# EAGLE library part NTR_CPU_B (library dslparts)
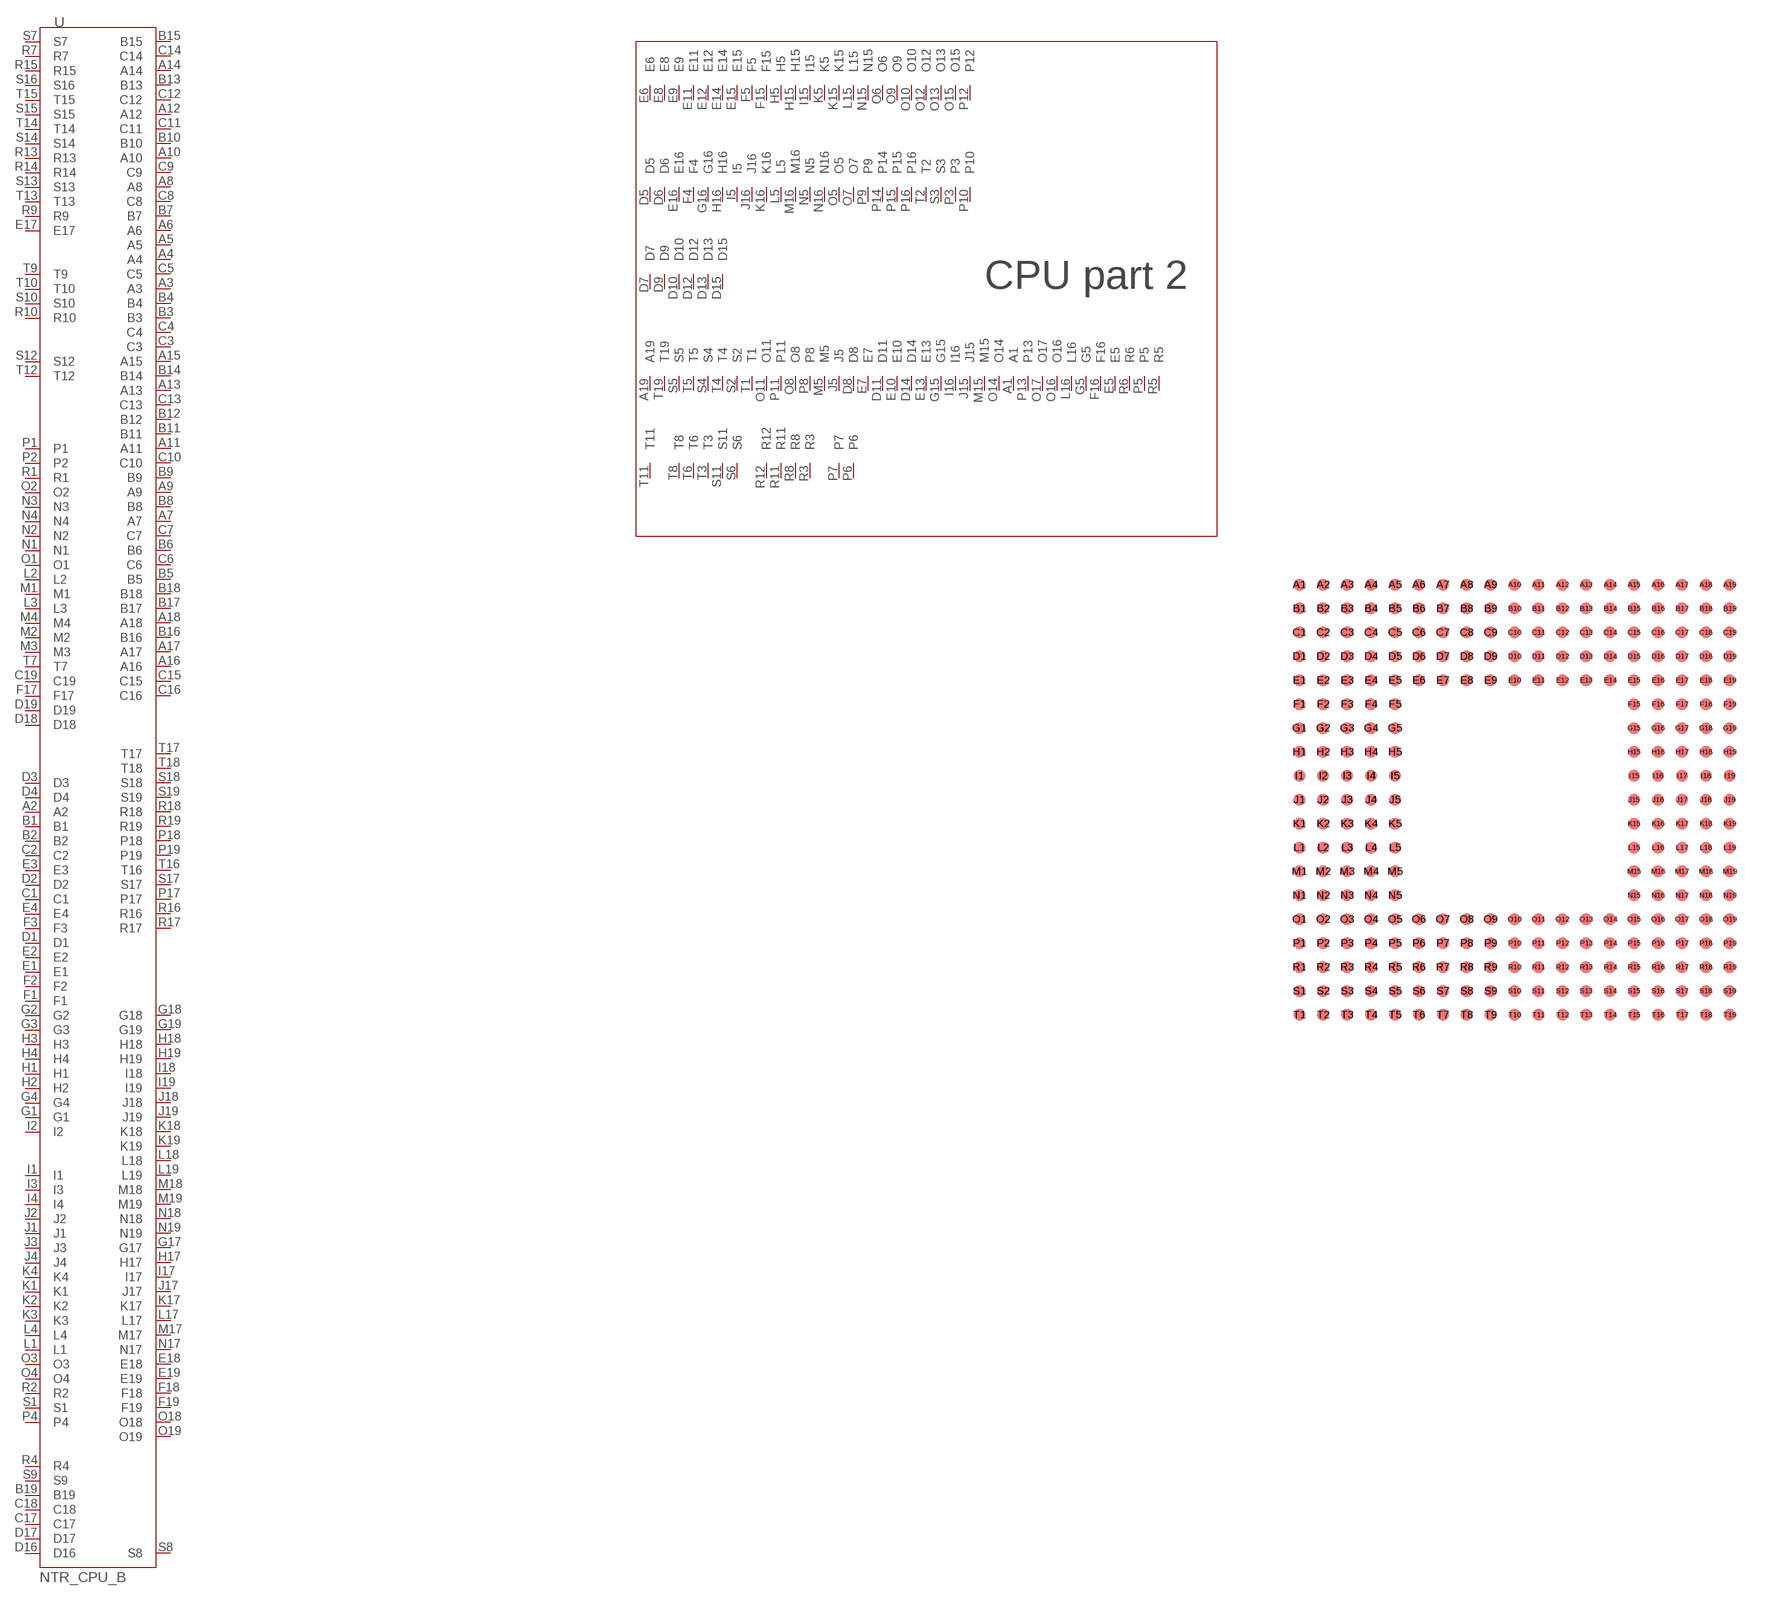
[diagram p2: symbol with the pads of CPU; footprint CPU]

Designator prefix -

## NTR_CPU_B  [CPU]
A1  A1
A2  A2
A3  A3
A4  A4
A5  A5
A6  A6
A7  A7
A8  A8
A9  A9
A10  A10
A11  A11
A12  A12
A13  A13
A14  A14
A15  A15
A16  A16
A17  A17
A18  A18
A19  A19
B1  B1
B2  B2
B3  B3
B4  B4
B5  B5
B6  B6
B7  B7
B8  B8
B9  B9
B10  B10
B11  B11
B12  B12
B13  B13
B14  B14
B15  B15
B16  B16
B17  B17
B18  B18
B19  B19
C1  C1
C2  C2
C3  C3
C4  C4
C5  C5
C6  C6
C7  C7
C8  C8
C9  C9
C10  C10
C11  C11
C12  C12
C13  C13
C14  C14
C15  C15
C16  C16
C17  C17
C18  C18
C19  C19
D1  D1
D2  D2
D3  D3
D4  D4
D5  D5
D6  D6
D7  D7
D8  D8
D9  D9
D10  D10
D11  D11
D12  D12
D13  D13
D14  D14
D15  D15
D16  D16
D17  D17
D18  D18
D19  D19
E1  E1
E2  E2
E3  E3
E4  E4
E5  E5
E6  E6
E7  E7
E8  E8
E9  E9
E10  E10
E11  E11
E12  E12
E13  E13
E14  E14
E15  E15
E16  E16
E17  E17
E18  E18
E19  E19
F1  F1
F2  F2
F3  F3
F4  F4
F5  F5
F15  F15
F16  F16
F17  F17
F18  F18
F19  F19
G1  G1
G2  G2
G3  G3
G4  G4
G5  G5
G15  G15
G16  G16
G17  G17
G18  G18
G19  G19
H1  H1
H2  H2
H3  H3
H4  H4
H5  H5
H15  H15
H16  H16
H17  H17
H18  H18
H19  H19
I1  I1
I2  I2
I3  I3
I4  I4
I5  I5
I15  I15
I16  I16
I17  I17
I18  I18
I19  I19
J1  J1
J2  J2
J3  J3
J4  J4
J5  J5
J15  J15
J16  J16
J17  J17
J18  J18
J19  J19
K1  K1
K2  K2
K3  K3
K4  K4
K5  K5
K15  K15
K16  K16
K17  K17
K18  K18
K19  K19
L1  L1
L2  L2
L3  L3
L4  L4
L5  L5
L15  L15
L16  L16
L17  L17
L18  L18
L19  L19
M1  M1
M2  M2
M3  M3
M4  M4
M5  M5
M15  M15
M16  M16
M17  M17
M18  M18
M19  M19
N1  N1
N2  N2
N3  N3
N4  N4
N5  N5
N15  N15
N16  N16
N17  N17
N18  N18
N19  N19
O1  O1
O2  O2
O3  O3
O4  O4
O5  O5
O6  O6
O7  O7
O8  O8
O9  O9
O10  O10
O11  O11
O12  O12
O13  O13
O14  O14
O15  O15
O16  O16
O17  O17
O18  O18
O19  O19
P1  P1
P2  P2
P3  P3
P4  P4
P5  P5
P6  P6
P7  P7
P8  P8
P9  P9
P10  P10
P11  P11
P12  P12
P13  P13
P14  P14
P15  P15
P16  P16
P17  P17
P18  P18
P19  P19
R1  R1
R2  R2
R3  R3
R4  R4
R5  R5
R6  R6
R7  R7
R8  R8
R9  R9
R10  R10
R11  R11
R12  R12
R13  R13
R14  R14
R15  R15
R16  R16
R17  R17
R18  R18
R19  R19
S1  S1
S2  S2
S3  S3
S4  S4
S5  S5
S6  S6
S7  S7
S8  S8
S9  S9
S10  S10
S11  S11
S12  S12
S13  S13
S14  S14
S15  S15
S16  S16
S17  S17
S18  S18
S19  S19
T1  T1
T2  T2
T3  T3
T4  T4
T5  T5
T6  T6
T7  T7
T8  T8
T9  T9
T10  T10
T11  T11
T12  T12
T13  T13
T14  T14
T15  T15
T16  T16
T17  T17
T18  T18
T19  T19

## Footprint CPU (pad centres in mm)
smd 0.4 x 0.4: A1 -7.2,7.2; A2 -6.4,7.2; A3 -5.6,7.2; A4 -4.8,7.2; A5 -4,7.2; A6 -3.2,7.2; A7 -2.4,7.2; A8 -1.6,7.2; A9 -0.8,7.2; A10 0,7.2; A11 0.8,7.2; A12 1.6,7.2; A13 2.4,7.2; A14 3.2,7.2; A15 4,7.2; A16 4.8,7.2; A17 5.6,7.2; A18 6.4,7.2; A19 7.2,7.2; B1 -7.2,6.4; B2 -6.4,6.4; B3 -5.6,6.4; B4 -4.8,6.4; B5 -4,6.4; B6 -3.2,6.4; B7 -2.4,6.4; B8 -1.6,6.4; B9 -0.8,6.4; B10 0,6.4; B11 0.8,6.4; B12 1.6,6.4; B13 2.4,6.4; B14 3.2,6.4; B15 4,6.4; B16 4.8,6.4; B17 5.6,6.4; B18 6.4,6.4; B19 7.2,6.4; C1 -7.2,5.6; C2 -6.4,5.6; C3 -5.6,5.6; C4 -4.8,5.6; C5 -4,5.6; C6 -3.2,5.6; C7 -2.4,5.6; C8 -1.6,5.6; C9 -0.8,5.6; C10 0,5.6; C11 0.8,5.6; C12 1.6,5.6; C13 2.4,5.6; C14 3.2,5.6; C15 4,5.6; C16 4.8,5.6; C17 5.6,5.6; C18 6.4,5.6; C19 7.2,5.6; D1 -7.2,4.8; D2 -6.4,4.8; D3 -5.6,4.8; D4 -4.8,4.8; D5 -4,4.8; D6 -3.2,4.8; D7 -2.4,4.8; D8 -1.6,4.8; D9 -0.8,4.8; D10 0,4.8; D11 0.8,4.8; D12 1.6,4.8; D13 2.4,4.8; D14 3.2,4.8; D15 4,4.8; D16 4.8,4.8; D17 5.6,4.8; D18 6.4,4.8; D19 7.2,4.8; E1 -7.2,4; E2 -6.4,4; E3 -5.6,4; E4 -4.8,4; E5 -4,4; E6 -3.2,4; E7 -2.4,4; E8 -1.6,4; E9 -0.8,4; E10 0,4; E11 0.8,4; E12 1.6,4; E13 2.4,4; E14 3.2,4; E15 4,4; E16 4.8,4; E17 5.6,4; E18 6.4,4; E19 7.2,4; F1 -7.2,3.2; F2 -6.4,3.2; F3 -5.6,3.2; F4 -4.8,3.2; F5 -4,3.2; F15 4,3.2; F16 4.8,3.2; F17 5.6,3.2; F18 6.4,3.2; F19 7.2,3.2; G1 -7.2,2.4; G2 -6.4,2.4; G3 -5.6,2.4; G4 -4.8,2.4; G5 -4,2.4; G15 4,2.4; G16 4.8,2.4; G17 5.6,2.4; G18 6.4,2.4; G19 7.2,2.4; H1 -7.2,1.6; H2 -6.4,1.6; H3 -5.6,1.6; H4 -4.8,1.6; H5 -4,1.6; H15 4,1.6; H16 4.8,1.6; H17 5.6,1.6; H18 6.4,1.6; H19 7.2,1.6; I1 -7.2,0.8; I2 -6.4,0.8; I3 -5.6,0.8; I4 -4.8,0.8; I5 -4,0.8; I15 4,0.8; I16 4.8,0.8; I17 5.6,0.8; I18 6.4,0.8; I19 7.2,0.8; J1 -7.2,0; J2 -6.4,0; J3 -5.6,0; J4 -4.8,0; J5 -4,0; J15 4,0; J16 4.8,0; J17 5.6,0; J18 6.4,0; J19 7.2,0; K1 -7.2,-0.8; K2 -6.4,-0.8; K3 -5.6,-0.8; K4 -4.8,-0.8; K5 -4,-0.8; K15 4,-0.8; K16 4.8,-0.8; K17 5.6,-0.8; K18 6.4,-0.8; K19 7.2,-0.8; L1 -7.2,-1.6; L2 -6.4,-1.6; L3 -5.6,-1.6; L4 -4.8,-1.6; L5 -4,-1.6; L15 4,-1.6; L16 4.8,-1.6; L17 5.6,-1.6; L18 6.4,-1.6; L19 7.2,-1.6; M1 -7.2,-2.4; M2 -6.4,-2.4; M3 -5.6,-2.4; M4 -4.8,-2.4; M5 -4,-2.4; M15 4,-2.4; M16 4.8,-2.4; M17 5.6,-2.4; M18 6.4,-2.4; M19 7.2,-2.4; N1 -7.2,-3.2; N2 -6.4,-3.2; N3 -5.6,-3.2; N4 -4.8,-3.2; N5 -4,-3.2; N15 4,-3.2; N16 4.8,-3.2; N17 5.6,-3.2; N18 6.4,-3.2; N19 7.2,-3.2; O1 -7.2,-4; O2 -6.4,-4; O3 -5.6,-4; O4 -4.8,-4; O5 -4,-4; O6 -3.2,-4; O7 -2.4,-4; O8 -1.6,-4; O9 -0.8,-4; O10 0,-4; O11 0.8,-4; O12 1.6,-4; O13 2.4,-4; O14 3.2,-4; O15 4,-4; O16 4.8,-4; O17 5.6,-4; O18 6.4,-4; O19 7.2,-4; P1 -7.2,-4.8; P2 -6.4,-4.8; P3 -5.6,-4.8; P4 -4.8,-4.8; P5 -4,-4.8; P6 -3.2,-4.8; P7 -2.4,-4.8; P8 -1.6,-4.8; P9 -0.8,-4.8; P10 0,-4.8; P11 0.8,-4.8; P12 1.6,-4.8; P13 2.4,-4.8; P14 3.2,-4.8; P15 4,-4.8; P16 4.8,-4.8; P17 5.6,-4.8; P18 6.4,-4.8; P19 7.2,-4.8; R1 -7.2,-5.6; R2 -6.4,-5.6; R3 -5.6,-5.6; R4 -4.8,-5.6; R5 -4,-5.6; R6 -3.2,-5.6; R7 -2.4,-5.6; R8 -1.6,-5.6; R9 -0.8,-5.6; R10 0,-5.6; R11 0.8,-5.6; R12 1.6,-5.6; R13 2.4,-5.6; R14 3.2,-5.6; R15 4,-5.6; R16 4.8,-5.6; R17 5.6,-5.6; R18 6.4,-5.6; R19 7.2,-5.6; S1 -7.2,-6.4; S2 -6.4,-6.4; S3 -5.6,-6.4; S4 -4.8,-6.4; S5 -4,-6.4; S6 -3.2,-6.4; S7 -2.4,-6.4; S8 -1.6,-6.4; S9 -0.8,-6.4; S10 0,-6.4; S11 0.8,-6.4; S12 1.6,-6.4; S13 2.4,-6.4; S14 3.2,-6.4; S15 4,-6.4; S16 4.8,-6.4; S17 5.6,-6.4; S18 6.4,-6.4; S19 7.2,-6.4; T1 -7.2,-7.2; T2 -6.4,-7.2; T3 -5.6,-7.2; T4 -4.8,-7.2; T5 -4,-7.2; T6 -3.2,-7.2; T7 -2.4,-7.2; T8 -1.6,-7.2; T9 -0.8,-7.2; T10 0,-7.2; T11 0.8,-7.2; T12 1.6,-7.2; T13 2.4,-7.2; T14 3.2,-7.2; T15 4,-7.2; T16 4.8,-7.2; T17 5.6,-7.2; T18 6.4,-7.2; T19 7.2,-7.2